# Altium schematic symbol library SCH - PASSIVES - L_COILCRAFT_XAL5050.SCHLIB: 1 symbol
Pins are listed as number, name and electrical type; pins without a type are passive.

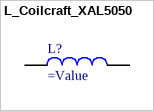
[diagram p0: symbol L_Coilcraft_XAL5050]

## L_Coilcraft_XAL5050
designator L?
Power Inductor 15µH 20% 3.9A 76.7mOhm
pins: 1, 2